# Altium schematic symbol library SCH - CHARGER - LTC LTC4125.SCHLIB: 1 symbol
Pins are listed as number, name and electrical type; pins without a type are passive.

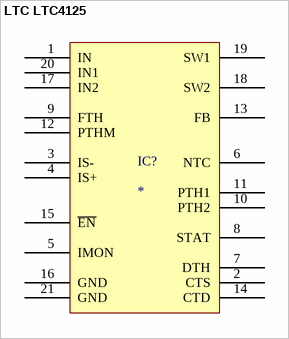
[diagram p0: symbol LTC LTC4125]

## LTC LTC4125
designator IC?
pins: 1 IN, 2 CTS, 3 IS-, 4 IS+, 5 IMON, 6 NTC, 7 DTH, 8 STAT, 9 FTH, 10 PTH2, 11 PTH1, 12 PTHM, 13 FB, 14 CTD, 15 ~{EN}, 16 GND, 17 IN2, 18 SW2, 19 SW1, 20 IN1, 21 GND